# Altium footprint library WR-TBL_Spring Clamp_5.00mm.PcbLib: 78 footprints (part 5 of 5)
Each footprint in its own frame and in the unit in brackets; x right, y up, seen from the top. Pads: shape width x height; smd on the part's side, far side on the other; paste and mask are expansions set on the pad; w line width, h text height; cw(c..) or ccw(c..) is an arc to the next point about the centre after c.
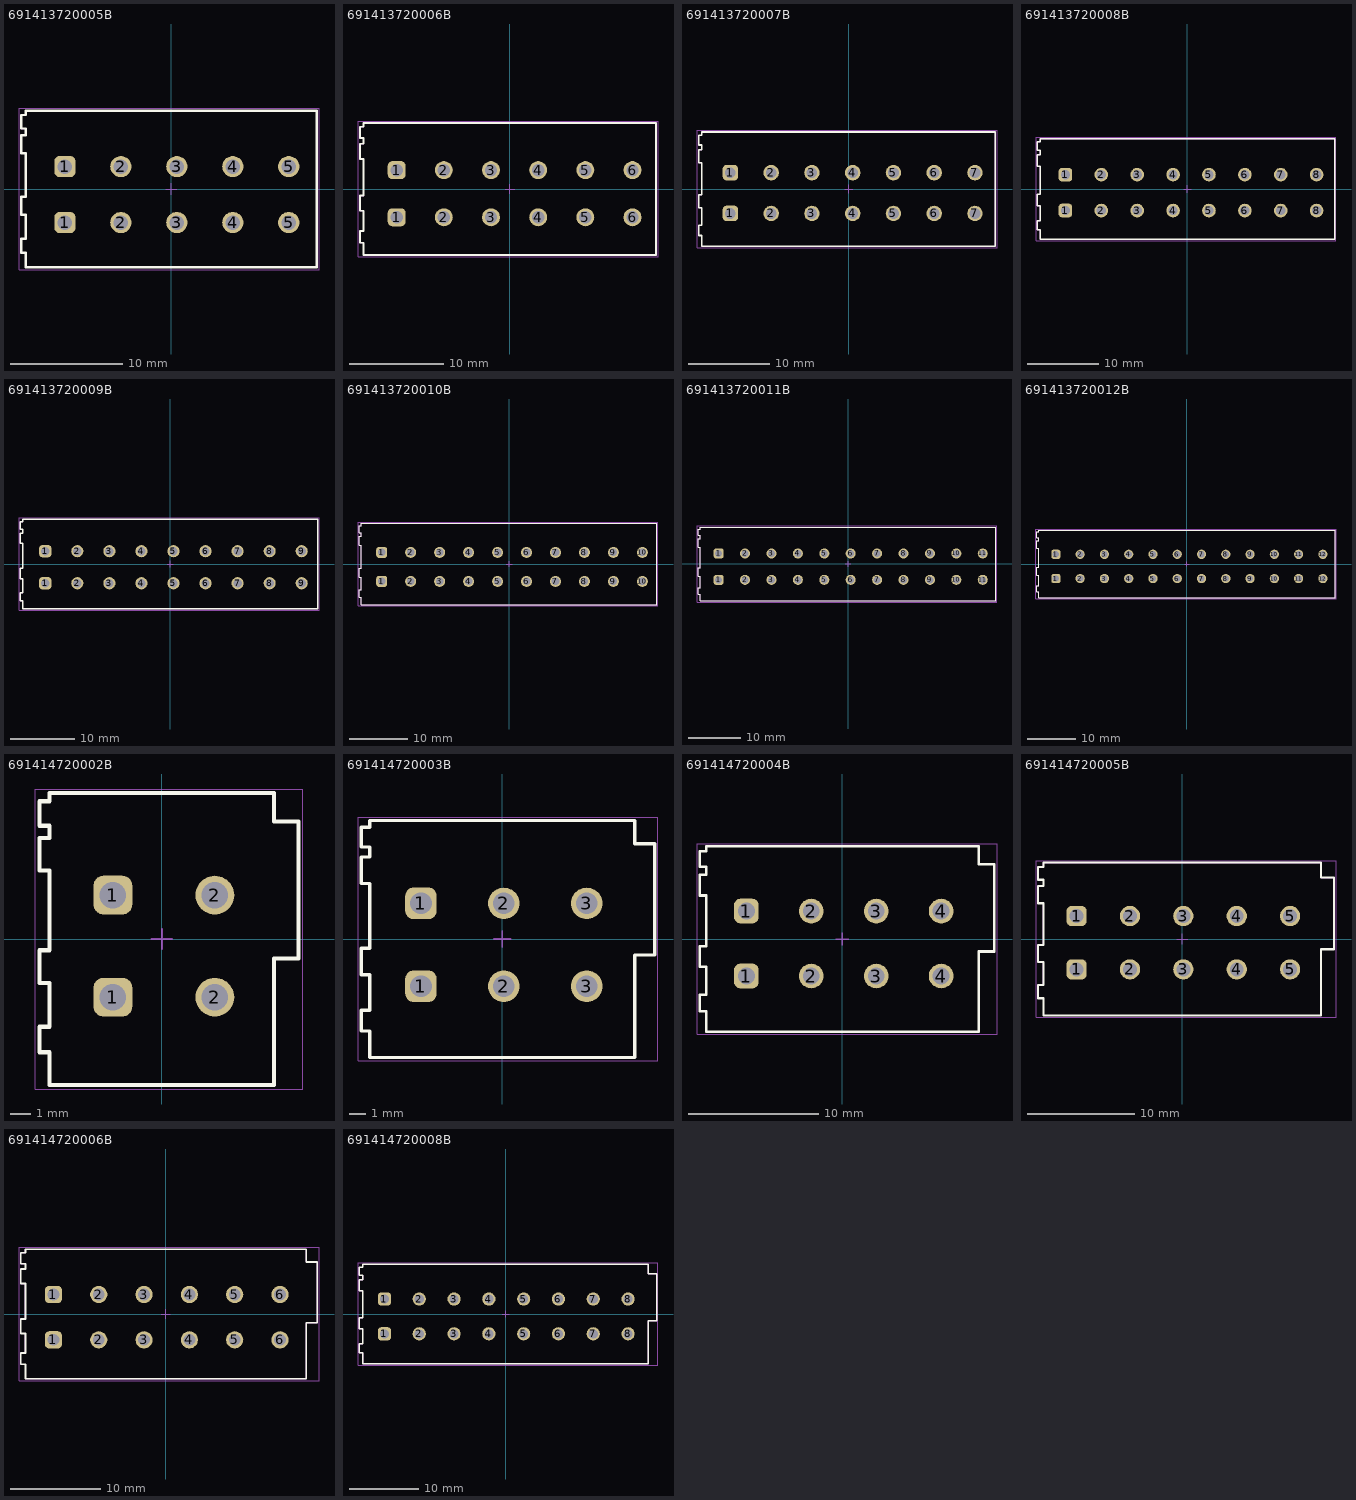
[diagram p4: the footprints below, top view; thin cyan lines are the x and y axes]

## 691413720005B [mm] "5.00 mm Screwless 45¡ã Entry - 3.00 mm2 Wires, 5p"
height 13
pads (10):
  rrect50% 1.9x1.9 hole 1.3: 1(-9.5,-3) 1(-9.5,2)
  round 1.9 hole 1.3: 2(-4.5,-3) 2(-4.5,2) 3(0.5,-3) 3(0.5,2) 4(5.5,-3) 4(5.5,2) 5(10.5,-3) 5(10.5,2)
Top Overlay:
  lines w0.2: -13.4,-5.7 -13,-5.7 -13,-7 13,-7 13,7 -13,7 -13,6.6 -13.4,6.6 -13.4,5.4 -13,5.4 -13,4.8 -13.4,4.8 -13.4,3.2 -13,3.2 -13,-0.7 -13.4,-0.7 -13.4,-2.3 -13,-2.3 -13,-4.45 -13.4,-4.45 -13.4,-5.7
Top Assembly:
  lines w0.1: -13.4,-5.7 -13.4,-4.45 -13,-4.45 -13,-2.3 -13.4,-2.3 -13.4,-0.7 -13,-0.7 -13,3.2 -13.4,3.2 -13.4,4.8 -13,4.8 -13,5.4 -13.4,5.4 -13.4,6.6 -13,6.6 -13,7 13,7 13,-7 -13,-7 -13,-5.7 -13.4,-5.7
Top Designator:
  text ".Designator" at -3.647,-0.357 h1
Top 3D Body:
  lines w0.1: -13.4,-5.7 -13,-5.7 -13,-7 13,-7 13,7 -13,7 -13,6.6 -13.4,6.6 -13.4,5.4 -13,5.4 -13,4.8 -13.4,4.8 -13.4,3.2 -13,3.2 -13,-0.7 -13.4,-0.7 -13.4,-2.3 -13,-2.3 -13,-4.45 -13.4,-4.45 -13.4,-5.7
Top Courtyard:
  lines w0.05: -13.6,-7.2 13.2,-7.2 13.2,7.2 -13.6,7.2 -13.6,-7.2
Top Component Center:
  lines w0.1: -0.5,0 0.5,0 ; 0,-0.5 0,0.5
3D body "691413720005B.stp": height 13.08, standoff -3.42, extent -13.4,-7 13,7

## 691413720006B [mm] "5.00 mm Screwless 45¡ã Entry - 3.00 mm2 Wires, 6p"
height 13
pads (12):
  rrect50% 1.9x1.9 hole 1.3: 1(-12,-3) 1(-12,2)
  round 1.9 hole 1.3: 2(-7,-3) 2(-7,2) 3(-2,-3) 3(-2,2) 4(3,-3) 4(3,2) 5(8,-3) 5(8,2) 6(13,-3) 6(13,2)
Top Overlay:
  lines w0.2: -15.9,-5.7 -15.5,-5.7 -15.5,-7 15.5,-7 15.5,7 -15.5,7 -15.5,6.6 -15.9,6.6 -15.9,5.4 -15.5,5.4 -15.5,4.8 -15.9,4.8 -15.9,3.2 -15.5,3.2 -15.5,-0.7 -15.9,-0.7 -15.9,-2.3 -15.5,-2.3 -15.5,-4.45 -15.9,-4.45 -15.9,-5.7
Top Assembly:
  lines w0.1: -15.9,-5.7 -15.9,-4.45 -15.5,-4.45 -15.5,-2.3 -15.9,-2.3 -15.9,-0.7 -15.5,-0.7 -15.5,3.2 -15.9,3.2 -15.9,4.8 -15.5,4.8 -15.5,5.4 -15.9,5.4 -15.9,6.6 -15.5,6.6 -15.5,7 15.5,7 15.5,-7 -15.5,-7 -15.5,-5.7 -15.9,-5.7
Top Designator:
  text ".Designator" at -3.647,-0.357 h1
Top 3D Body:
  lines w0.1: -15.9,-5.7 -15.5,-5.7 -15.5,-7 15.5,-7 15.5,7 -15.5,7 -15.5,6.6 -15.9,6.6 -15.9,5.4 -15.5,5.4 -15.5,4.8 -15.9,4.8 -15.9,3.2 -15.5,3.2 -15.5,-0.7 -15.9,-0.7 -15.9,-2.3 -15.5,-2.3 -15.5,-4.45 -15.9,-4.45 -15.9,-5.7
Top Courtyard:
  lines w0.05: -16.1,-7.2 15.7,-7.2 15.7,7.2 -16.1,7.2 -16.1,-7.2
Top Component Center:
  lines w0.1: -0.5,0 0.5,0 ; 0,-0.5 0,0.5
3D body "691413720006B.stp": height 13.08, standoff -3.42, extent -15.9,-7 15.5,7

## 691413720007B [mm] "5.00 mm Screwless 45¡ã Entry - 3.00 mm2 Wires, 7p"
height 13
pads (14):
  rrect50% 1.9x1.9 hole 1.3: 1(-14.5,-3) 1(-14.5,2)
  round 1.9 hole 1.3: 2(-9.5,-3) 2(-9.5,2) 3(-4.5,-3) 3(-4.5,2) 4(0.5,-3) 4(0.5,2) 5(5.5,-3) 5(5.5,2) 6(10.5,-3) 6(10.5,2) 7(15.5,-3) 7(15.5,2)
Top Overlay:
  lines w0.2: -18.4,-5.7 -18,-5.7 -18,-7 18,-7 18,7 -18,7 -18,6.6 -18.4,6.6 -18.4,5.4 -18,5.4 -18,4.8 -18.4,4.8 -18.4,3.2 -18,3.2 -18,-0.7 -18.4,-0.7 -18.4,-2.3 -18,-2.3 -18,-4.45 -18.4,-4.45 -18.4,-5.7
Top Assembly:
  lines w0.1: -18.4,-5.7 -18.4,-4.45 -18,-4.45 -18,-2.3 -18.4,-2.3 -18.4,-0.7 -18,-0.7 -18,3.2 -18.4,3.2 -18.4,4.8 -18,4.8 -18,5.4 -18.4,5.4 -18.4,6.6 -18,6.6 -18,7 18,7 18,-7 -18,-7 -18,-5.7 -18.4,-5.7
Top Designator:
  text ".Designator" at -3.647,-0.357 h1
Top 3D Body:
  lines w0.1: -18.4,-5.7 -18,-5.7 -18,-7 18,-7 18,7 -18,7 -18,6.6 -18.4,6.6 -18.4,5.4 -18,5.4 -18,4.8 -18.4,4.8 -18.4,3.2 -18,3.2 -18,-0.7 -18.4,-0.7 -18.4,-2.3 -18,-2.3 -18,-4.45 -18.4,-4.45 -18.4,-5.7
Top Courtyard:
  lines w0.05: -18.6,-7.2 18.2,-7.2 18.2,7.2 -18.6,7.2 -18.6,-7.2
Top Component Center:
  lines w0.1: -0.5,0 0.5,0 ; 0,-0.5 0,0.5
3D body "691413720007B.stp": height 13.08, standoff -3.42, extent -18.4,-7 18,7

## 691413720008B [mm] "5.00 mm Screwless 45¡ã Entry - 3.00 mm2 Wires, 8p"
height 13
pads (16):
  rrect50% 1.9x1.9 hole 1.3: 1(-17,-3) 1(-17,2)
  round 1.9 hole 1.3: 2(-12,-3) 2(-12,2) 3(-7,-3) 3(-7,2) 4(-2,-3) 4(-2,2) 5(3,-3) 5(3,2) 6(8,-3) 6(8,2) 7(13,-3) 7(13,2) 8(18,-3) 8(18,2)
Top Overlay:
  lines w0.2: -20.9,-5.7 -20.9,-4.45 -20.5,-4.45 -20.5,-2.3 -20.9,-2.3 -20.9,-0.7 -20.5,-0.7 -20.5,3.2 -20.9,3.2 -20.9,4.8 -20.5,4.8 -20.5,5.4 -20.9,5.4 -20.9,6.6 -20.5,6.6 -20.5,7 20.5,7 20.5,-7 -20.5,-7 -20.5,-5.7 -20.9,-5.7
Top Assembly:
  lines w0.1: -20.9,-5.7 -20.5,-5.7 -20.5,-7 20.5,-7 20.5,7 -20.5,7 -20.5,6.6 -20.9,6.6 -20.9,5.4 -20.5,5.4 -20.5,4.8 -20.9,4.8 -20.9,3.2 -20.5,3.2 -20.5,-0.7 -20.9,-0.7 -20.9,-2.3 -20.5,-2.3 -20.5,-4.45 -20.9,-4.45 -20.9,-5.7
Top Designator:
  text ".Designator" at -3.647,-0.357 h1
Top 3D Body:
  lines w0.1: -20.9,-5.7 -20.9,-4.45 -20.5,-4.45 -20.5,-2.3 -20.9,-2.3 -20.9,-0.7 -20.5,-0.7 -20.5,3.2 -20.9,3.2 -20.9,4.8 -20.5,4.8 -20.5,5.4 -20.9,5.4 -20.9,6.6 -20.5,6.6 -20.5,7 20.5,7 20.5,-7 -20.5,-7 -20.5,-5.7 -20.9,-5.7
Top Courtyard:
  lines w0.05: -21.1,-7.2 -21.1,7.2 20.7,7.2 20.7,-7.2 -21.1,-7.2
Top Component Center:
  lines w0.1: -0.5,0 0.5,0 ; 0,-0.5 0,0.5
3D body "691413720008B.stp": height 13.08, standoff -3.42, extent -20.9,-7 20.5,7

## 691413720009B [mm] "5.00 mm Screwless 45¡ã Entry - 3.00 mm2 Wires, 9p"
height 13
pads (18):
  rrect50% 1.9x1.9 hole 1.3: 1(-19.5,-3) 1(-19.5,2)
  round 1.9 hole 1.3: 2(-14.5,-3) 2(-14.5,2) 3(-9.5,-3) 3(-9.5,2) 4(-4.5,-3) 4(-4.5,2) 5(0.5,-3) 5(0.5,2) 6(5.5,-3) 6(5.5,2) 7(10.5,-3) 7(10.5,2) 8(15.5,-3) 8(15.5,2) 9(20.5,-3) 9(20.5,2)
Top Overlay:
  lines w0.2: -23.4,-5.7 -23,-5.7 -23,-7 23,-7 23,7 -23,7 -23,6.6 -23.4,6.6 -23.4,5.4 -23,5.4 -23,4.8 -23.4,4.8 -23.4,3.2 -23,3.2 -23,-0.7 -23.4,-0.7 -23.4,-2.3 -23,-2.3 -23,-4.45 -23.4,-4.45 -23.4,-5.7
Top Assembly:
  lines w0.1: -23.4,-5.7 -23.4,-4.45 -23,-4.45 -23,-2.3 -23.4,-2.3 -23.4,-0.7 -23,-0.7 -23,3.2 -23.4,3.2 -23.4,4.8 -23,4.8 -23,5.4 -23.4,5.4 -23.4,6.6 -23,6.6 -23,7 23,7 23,-7 -23,-7 -23,-5.7 -23.4,-5.7
Top Designator:
  text ".Designator" at -3.647,-0.357 h1
Top 3D Body:
  lines w0.1: -23.4,-5.7 -23,-5.7 -23,-7 23,-7 23,7 -23,7 -23,6.6 -23.4,6.6 -23.4,5.4 -23,5.4 -23,4.8 -23.4,4.8 -23.4,3.2 -23,3.2 -23,-0.7 -23.4,-0.7 -23.4,-2.3 -23,-2.3 -23,-4.45 -23.4,-4.45 -23.4,-5.7
Top Courtyard:
  lines w0.05: -23.6,-7.2 23.2,-7.2 23.2,7.2 -23.6,7.2 -23.6,-7.2
Top Component Center:
  lines w0.1: -0.5,0 0.5,0 ; 0,-0.5 0,0.5
3D body "691413720009B.stp": height 13.08, standoff -3.42, extent -23.4,-7 23,7

## 691413720010B [mm] "5.00 mm Screwless 45¡ã Entry - 3.00 mm2 Wires, 10p"
height 13
pads (20):
  rrect50% 1.9x1.9 hole 1.3: 1(-22,-3) 1(-22,2)
  round 1.9 hole 1.3: 2(-17,-3) 2(-17,2) 3(-12,-3) 3(-12,2) 4(-7,-3) 4(-7,2) 5(-2,-3) 5(-2,2) 6(3,-3) 6(3,2) 7(8,-3) 7(8,2) 8(13,-3) 8(13,2) 9(18,-3) 9(18,2) 10(23,-3) 10(23,2)
Top Overlay:
  lines w0.2: -25.9,-5.7 -25.9,-4.45 -25.5,-4.45 -25.5,-2.3 -25.9,-2.3 -25.9,-0.7 -25.5,-0.7 -25.5,3.2 -25.9,3.2 -25.9,4.8 -25.5,4.8 -25.5,5.4 -25.9,5.4 -25.9,6.6 -25.5,6.6 -25.5,7 25.5,7 25.5,-7 -25.5,-7 -25.5,-5.7 -25.9,-5.7
Top Assembly:
  lines w0.1: -25.9,-5.7 -25.5,-5.7 -25.5,-7 25.5,-7 25.5,7 -25.5,7 -25.5,6.6 -25.9,6.6 -25.9,5.4 -25.5,5.4 -25.5,4.8 -25.9,4.8 -25.9,3.2 -25.5,3.2 -25.5,-0.7 -25.9,-0.7 -25.9,-2.3 -25.5,-2.3 -25.5,-4.45 -25.9,-4.45 -25.9,-5.7
Top Designator:
  text ".Designator" at -3.647,-0.357 h1
Top 3D Body:
  lines w0.1: -25.9,-5.7 -25.9,-4.45 -25.5,-4.45 -25.5,-2.3 -25.9,-2.3 -25.9,-0.7 -25.5,-0.7 -25.5,3.2 -25.9,3.2 -25.9,4.8 -25.5,4.8 -25.5,5.4 -25.9,5.4 -25.9,6.6 -25.5,6.6 -25.5,7 25.5,7 25.5,-7 -25.5,-7 -25.5,-5.7 -25.9,-5.7
Top Courtyard:
  lines w0.05: -26.1,-7.2 -26.1,7.2 25.7,7.2 25.7,-7.2 -26.1,-7.2
Top Component Center:
  lines w0.1: -0.5,0 0.5,0 ; 0,-0.5 0,0.5
3D body "691413720010B.stp": height 13.08, standoff -3.42, extent -25.9,-7 25.5,7

## 691413720011B [mm] "5.00 mm Screwless 45¡ã Entry - 3.00 mm2 Wires, 11p"
height 13
pads (22):
  rrect50% 1.9x1.9 hole 1.3: 1(-24.5,-3) 1(-24.5,2)
  round 1.9 hole 1.3: 2(-19.5,-3) 2(-19.5,2) 3(-14.5,-3) 3(-14.5,2) 4(-9.5,-3) 4(-9.5,2) 5(-4.5,-3) 5(-4.5,2) 6(0.5,-3) 6(0.5,2) 7(5.5,-3) 7(5.5,2) 8(10.5,-3) 8(10.5,2) 9(15.5,-3) 9(15.5,2) 10(20.5,-3) 10(20.5,2) 11(25.5,-3) 11(25.5,2)
Top Overlay:
  lines w0.2: -28.4,-5.7 -28,-5.7 -28,-7 28,-7 28,7 -28,7 -28,6.6 -28.4,6.6 -28.4,5.4 -28,5.4 -28,4.8 -28.4,4.8 -28.4,3.2 -28,3.2 -28,-0.7 -28.4,-0.7 -28.4,-2.3 -28,-2.3 -28,-4.45 -28.4,-4.45 -28.4,-5.7
Top Assembly:
  lines w0.1: -28.4,-5.7 -28.4,-4.45 -28,-4.45 -28,-2.3 -28.4,-2.3 -28.4,-0.7 -28,-0.7 -28,3.2 -28.4,3.2 -28.4,4.8 -28,4.8 -28,5.4 -28.4,5.4 -28.4,6.6 -28,6.6 -28,7 28,7 28,-7 -28,-7 -28,-5.7 -28.4,-5.7
Top Designator:
  text ".Designator" at -3.647,-0.357 h1
Top 3D Body:
  lines w0.1: -28.4,-5.7 -28,-5.7 -28,-7 28,-7 28,7 -28,7 -28,6.6 -28.4,6.6 -28.4,5.4 -28,5.4 -28,4.8 -28.4,4.8 -28.4,3.2 -28,3.2 -28,-0.7 -28.4,-0.7 -28.4,-2.3 -28,-2.3 -28,-4.45 -28.4,-4.45 -28.4,-5.7
Top Courtyard:
  lines w0.05: -28.6,-7.2 28.2,-7.2 28.2,7.2 -28.6,7.2 -28.6,-7.2
Top Component Center:
  lines w0.1: -0.5,0 0.5,0 ; 0,-0.5 0,0.5
3D body "691413720011B.stp": height 13.08, standoff -3.42, extent -28.4,-7 28,7

## 691413720012B [mm] "5.00 mm Screwless 45¡ã Entry - 3.00 mm2 Wires, 12p"
height 13
pads (24):
  rrect50% 1.9x1.9 hole 1.3: 1(-27,-3) 1(-27,2)
  round 1.9 hole 1.3: 2(-22,-3) 2(-22,2) 3(-17,-3) 3(-17,2) 4(-12,-3) 4(-12,2) 5(-7,-3) 5(-7,2) 6(-2,-3) 6(-2,2) 7(3,-3) 7(3,2) 8(8,-3) 8(8,2) 9(13,-3) 9(13,2) 10(18,-3) 10(18,2) 11(23,-3) 11(23,2) 12(28,-3) 12(28,2)
Top Overlay:
  lines w0.2: -30.9,-5.7 -30.9,-4.45 -30.5,-4.45 -30.5,-2.3 -30.9,-2.3 -30.9,-0.7 -30.5,-0.7 -30.5,3.2 -30.9,3.2 -30.9,4.8 -30.5,4.8 -30.5,5.4 -30.9,5.4 -30.9,6.6 -30.5,6.6 -30.5,7 30.5,7 30.5,-7 -30.5,-7 -30.5,-5.7 -30.9,-5.7
Top Assembly:
  lines w0.1: -30.9,-5.7 -30.5,-5.7 -30.5,-7 30.5,-7 30.5,7 -30.5,7 -30.5,6.6 -30.9,6.6 -30.9,5.4 -30.5,5.4 -30.5,4.8 -30.9,4.8 -30.9,3.2 -30.5,3.2 -30.5,-0.7 -30.9,-0.7 -30.9,-2.3 -30.5,-2.3 -30.5,-4.45 -30.9,-4.45 -30.9,-5.7
Top Designator:
  text ".Designator" at -3.647,-0.357 h1
Top 3D Body:
  lines w0.1: -30.9,-5.7 -30.9,-4.45 -30.5,-4.45 -30.5,-2.3 -30.9,-2.3 -30.9,-0.7 -30.5,-0.7 -30.5,3.2 -30.9,3.2 -30.9,4.8 -30.5,4.8 -30.5,5.4 -30.9,5.4 -30.9,6.6 -30.5,6.6 -30.5,7 30.5,7 30.5,-7 -30.5,-7 -30.5,-5.7 -30.9,-5.7
Top Courtyard:
  lines w0.05: -31.1,-7.2 -31.1,7.2 30.7,7.2 30.7,-7.2 -31.1,-7.2
Top Component Center:
  lines w0.1: -0.5,0 0.5,0 ; 0,-0.5 0,0.5
3D body "691413720012B.stp": height 13.08, standoff -3.42, extent -30.9,-7 30.5,7

## 691414720002B [mm] "5.00 mm Screwless 45¡ã Entry - 3.00 mm2 Wires, 2p"
height 12.9
pads (4):
  rrect50% 1.9x1.9 hole 1.3: 1(-2.4,-2.85) 1(-2.4,2.15)
  round 1.9 hole 1.3: 2(2.6,-2.85) 2(2.6,2.15)
Top Overlay:
  lines w0.2: -6,-5.55 -6,-4.3 -5.5,-4.3 -5.5,-2.15 -6,-2.15 -6,-0.55 -5.5,-0.55 -5.5,3.35 -6,3.35 -6,4.95 -5.5,4.95 -5.5,5.55 -6,5.55 -6,6.75 -5.5,6.75 -5.5,7.15 5.5,7.15 5.5,5.75 6.7,5.75 6.7,-0.96 5.5,-0.96 5.5,-7.15 -5.5,-7.15 -5.5,-5.55 -6,-5.55
Top Assembly:
  lines w0.1: -6,-5.55 -5.5,-5.55 -5.5,-7.15 5.5,-7.15 5.5,-0.96 6.7,-0.96 6.7,5.75 5.5,5.75 5.5,7.15 -5.5,7.15 -5.5,6.75 -6,6.75 -6,5.55 -5.5,5.55 -5.5,4.95 -6,4.95 -6,3.35 -5.5,3.35 -5.5,-0.55 -6,-0.55 -6,-2.15 -5.5,-2.15 -5.5,-4.3 -6,-4.3 -6,-5.55
Top Designator:
  text ".Designator" at -3.647,-0.357 h1
Top 3D Body:
  lines w0.1: -6,-5.55 -6,-4.3 -5.5,-4.3 -5.5,-2.15 -6,-2.15 -6,-0.55 -5.5,-0.55 -5.5,3.35 -6,3.35 -6,4.95 -5.5,4.95 -5.5,5.55 -6,5.55 -6,6.75 -5.5,6.75 -5.5,7.15 5.5,7.15 5.5,5.75 6.7,5.75 6.7,-0.96 5.5,-0.96 5.5,-7.15 -5.5,-7.15 -5.5,-5.55 -6,-5.55
Top Courtyard:
  lines w0.05: -6.2,-7.35 6.9,-7.35 6.9,7.35 -6.2,7.35 -6.2,-7.35
Top Component Center:
  lines w0.1: -0.5,0 0.5,0 ; 0,-0.5 0,0.5
3D body "691414720002B.stp": height 19.05, standoff -3.93, extent -6,-7.15 6.7,7.15

## 691414720003B [mm] "5.00 mm Screwless 45¡ã Entry - 3.00 mm2 Wires, 3p"
height 12.9
pads (6):
  rrect50% 1.9x1.9 hole 1.3: 1(-4.9,-2.85) 1(-4.9,2.15)
  round 1.9 hole 1.3: 2(0.1,-2.85) 2(0.1,2.15) 3(5.1,-2.85) 3(5.1,2.15)
Top Overlay:
  lines w0.2: -8.5,-5.55 -8.5,-4.3 -8,-4.3 -8,-2.15 -8.5,-2.15 -8.5,-0.55 -8,-0.55 -8,3.35 -8.5,3.35 -8.5,4.95 -8,4.95 -8,5.55 -8.5,5.55 -8.5,6.75 -8,6.75 -8,7.15 8,7.15 8,5.75 9.2,5.75 9.2,-0.96 8,-0.96 8,-7.15 -8,-7.15 -8,-5.55 -8.5,-5.55
Top Assembly:
  lines w0.1: -8.5,-5.55 -8,-5.55 -8,-7.15 8,-7.15 8,-0.96 9.2,-0.96 9.2,5.75 8,5.75 8,7.15 -8,7.15 -8,6.75 -8.5,6.75 -8.5,5.55 -8,5.55 -8,4.95 -8.5,4.95 -8.5,3.35 -8,3.35 -8,-0.55 -8.5,-0.55 -8.5,-2.15 -8,-2.15 -8,-4.3 -8.5,-4.3 -8.5,-5.55
Top Designator:
  text ".Designator" at -3.647,-0.357 h1
Top 3D Body:
  lines w0.1: -8.5,-5.55 -8.5,-4.3 -8,-4.3 -8,-2.15 -8.5,-2.15 -8.5,-0.55 -8,-0.55 -8,3.35 -8.5,3.35 -8.5,4.95 -8,4.95 -8,5.55 -8.5,5.55 -8.5,6.75 -8,6.75 -8,7.15 8,7.15 8,5.75 9.2,5.75 9.2,-0.96 8,-0.96 8,-7.15 -8,-7.15 -8,-5.55 -8.5,-5.55
Top Courtyard:
  lines w0.05: -8.7,-7.35 9.4,-7.35 9.4,7.35 -8.7,7.35 -8.7,-7.35
Top Component Center:
  lines w0.1: -0.5,0 0.5,0 ; 0,-0.5 0,0.5
3D body "691414720003B.stp": height 19.05, standoff -3.93, extent -8.5,-7.15 9.2,7.15

## 691414720004B [mm] "5.00 mm Screwless 45¡ã Entry - 3.00 mm2 Wires, 4p"
height 12.9
pads (8):
  rrect50% 1.9x1.9 hole 1.3: 1(-7.4,-2.85) 1(-7.4,2.15)
  round 1.9 hole 1.3: 2(-2.4,-2.85) 2(-2.4,2.15) 3(2.6,-2.85) 3(2.6,2.15) 4(7.6,-2.85) 4(7.6,2.15)
Top Overlay:
  lines w0.2: -11,-5.55 -11,-4.3 -10.5,-4.3 -10.5,-2.15 -11,-2.15 -11,-0.55 -10.5,-0.55 -10.5,3.35 -11,3.35 -11,4.95 -10.5,4.95 -10.5,5.55 -11,5.55 -11,6.75 -10.5,6.75 -10.5,7.15 10.5,7.15 10.5,5.75 11.7,5.75 11.7,-0.96 10.5,-0.96 10.5,-7.15 -10.5,-7.15 -10.5,-5.55 -11,-5.55
Top Assembly:
  lines w0.1: -11,-5.55 -10.5,-5.55 -10.5,-7.15 10.5,-7.15 10.5,-0.96 11.7,-0.96 11.7,5.75 10.5,5.75 10.5,7.15 -10.5,7.15 -10.5,6.75 -11,6.75 -11,5.55 -10.5,5.55 -10.5,4.95 -11,4.95 -11,3.35 -10.5,3.35 -10.5,-0.55 -11,-0.55 -11,-2.15 -10.5,-2.15 -10.5,-4.3 -11,-4.3 -11,-5.55
Top Designator:
  text ".Designator" at -3.647,-0.357 h1
Top 3D Body:
  lines w0.1: -11,-5.55 -11,-4.3 -10.5,-4.3 -10.5,-2.15 -11,-2.15 -11,-0.55 -10.5,-0.55 -10.5,3.35 -11,3.35 -11,4.95 -10.5,4.95 -10.5,5.55 -11,5.55 -11,6.75 -10.5,6.75 -10.5,7.15 10.5,7.15 10.5,5.75 11.7,5.75 11.7,-0.96 10.5,-0.96 10.5,-7.15 -10.5,-7.15 -10.5,-5.55 -11,-5.55
Top Courtyard:
  lines w0.05: -11.2,-7.35 11.9,-7.35 11.9,7.35 -11.2,7.35 -11.2,-7.35
Top Component Center:
  lines w0.1: -0.5,0 0.5,0 ; 0,-0.5 0,0.5
3D body "691414720004B.stp": height 19.05, standoff -3.93, extent -11,-7.15 11.7,7.15

## 691414720005B [mm] "5.00 mm Screwless 45¡ã Entry - 3.00 mm2 Wires, 5p"
height 12.9
pads (10):
  rrect50% 1.9x1.9 hole 1.3: 1(-9.9,-2.85) 1(-9.9,2.15)
  round 1.9 hole 1.3: 2(-4.9,-2.85) 2(-4.9,2.15) 3(0.1,-2.85) 3(0.1,2.15) 4(5.1,-2.85) 4(5.1,2.15) 5(10.1,-2.85) 5(10.1,2.15)
Top Overlay:
  lines w0.2: -13.5,-5.55 -13.5,-4.3 -13,-4.3 -13,-2.15 -13.5,-2.15 -13.5,-0.55 -13,-0.55 -13,3.35 -13.5,3.35 -13.5,4.95 -13,4.95 -13,5.55 -13.5,5.55 -13.5,6.75 -13,6.75 -13,7.15 13,7.15 13,5.75 14.2,5.75 14.2,-0.96 13,-0.96 13,-7.15 -13,-7.15 -13,-5.55 -13.5,-5.55
Top Assembly:
  lines w0.1: -13.5,-5.55 -13,-5.55 -13,-7.15 13,-7.15 13,-0.96 14.2,-0.96 14.2,5.75 13,5.75 13,7.15 -13,7.15 -13,6.75 -13.5,6.75 -13.5,5.55 -13,5.55 -13,4.95 -13.5,4.95 -13.5,3.35 -13,3.35 -13,-0.55 -13.5,-0.55 -13.5,-2.15 -13,-2.15 -13,-4.3 -13.5,-4.3 -13.5,-5.55
Top Designator:
  text ".Designator" at -3.647,-0.357 h1
Top 3D Body:
  lines w0.1: -13.5,-5.55 -13.5,-4.3 -13,-4.3 -13,-2.15 -13.5,-2.15 -13.5,-0.55 -13,-0.55 -13,3.35 -13.5,3.35 -13.5,4.95 -13,4.95 -13,5.55 -13.5,5.55 -13.5,6.75 -13,6.75 -13,7.15 13,7.15 13,5.75 14.2,5.75 14.2,-0.96 13,-0.96 13,-7.15 -13,-7.15 -13,-5.55 -13.5,-5.55
Top Courtyard:
  lines w0.05: -13.7,-7.35 14.4,-7.35 14.4,7.35 -13.7,7.35 -13.7,-7.35
Top Component Center:
  lines w0.1: -0.5,0 0.5,0 ; 0,-0.5 0,0.5
3D body "691414720005B.stp": height 19.05, standoff -3.93, extent -13.5,-7.15 14.2,7.15

## 691414720006B [mm] "5.00 mm Screwless 45¡ã Entry - 3.00 mm2 Wires, 6p"
height 12.9
pads (12):
  rrect50% 1.9x1.9 hole 1.3: 1(-12.4,-2.85) 1(-12.4,2.15)
  round 1.9 hole 1.3: 2(-7.4,-2.85) 2(-7.4,2.15) 3(-2.4,-2.85) 3(-2.4,2.15) 4(2.6,-2.85) 4(2.6,2.15) 5(7.6,-2.85) 5(7.6,2.15) 6(12.6,-2.85) 6(12.6,2.15)
Top Overlay:
  lines w0.2: -16,-5.55 -16,-4.3 -15.5,-4.3 -15.5,-2.15 -16,-2.15 -16,-0.55 -15.5,-0.55 -15.5,3.35 -16,3.35 -16,4.95 -15.5,4.95 -15.5,5.55 -16,5.55 -16,6.75 -15.5,6.75 -15.5,7.15 15.5,7.15 15.5,5.75 16.7,5.75 16.7,-0.96 15.5,-0.96 15.5,-7.15 -15.5,-7.15 -15.5,-5.55 -16,-5.55
Top Assembly:
  lines w0.1: -16,-5.55 -15.5,-5.55 -15.5,-7.15 15.5,-7.15 15.5,-0.96 16.7,-0.96 16.7,5.75 15.5,5.75 15.5,7.15 -15.5,7.15 -15.5,6.75 -16,6.75 -16,5.55 -15.5,5.55 -15.5,4.95 -16,4.95 -16,3.35 -15.5,3.35 -15.5,-0.55 -16,-0.55 -16,-2.15 -15.5,-2.15 -15.5,-4.3 -16,-4.3 -16,-5.55
Top Designator:
  text ".Designator" at -3.647,-0.357 h1
Top 3D Body:
  lines w0.1: -16,-5.55 -16,-4.3 -15.5,-4.3 -15.5,-2.15 -16,-2.15 -16,-0.55 -15.5,-0.55 -15.5,3.35 -16,3.35 -16,4.95 -15.5,4.95 -15.5,5.55 -16,5.55 -16,6.75 -15.5,6.75 -15.5,7.15 15.5,7.15 15.5,5.75 16.7,5.75 16.7,-0.96 15.5,-0.96 15.5,-7.15 -15.5,-7.15 -15.5,-5.55 -16,-5.55
Top Courtyard:
  lines w0.05: -16.2,-7.35 16.9,-7.35 16.9,7.35 -16.2,7.35 -16.2,-7.35
Top Component Center:
  lines w0.1: -0.5,0 0.5,0 ; 0,-0.5 0,0.5
3D body "691414720006B.stp": height 19.05, standoff -3.93, extent -16,-7.15 16.7,7.15

## 691414720008B [mm] "5.00 mm Screwless 45¡ã Entry - 3.00 mm2 Wires, 8p"
height 12.9
pads (16):
  rrect50% 1.9x1.9 hole 1.3: 1(-17.4,-2.85) 1(-17.4,2.15)
  round 1.9 hole 1.3: 2(-12.4,-2.85) 2(-12.4,2.15) 3(-7.4,-2.85) 3(-7.4,2.15) 4(-2.4,-2.85) 4(-2.4,2.15) 5(2.6,-2.85) 5(2.6,2.15) 6(7.6,-2.85) 6(7.6,2.15) 7(12.6,-2.85) 7(12.6,2.15) 8(17.6,-2.85) 8(17.6,2.15)
Top Overlay:
  lines w0.2: -21,-5.55 -20.5,-5.55 -20.5,-7.15 20.5,-7.15 20.5,-0.96 21.7,-0.96 21.7,5.75 20.5,5.75 20.5,7.15 -20.5,7.15 -20.5,6.75 -21,6.75 -21,5.55 -20.5,5.55 -20.5,4.95 -21,4.95 -21,3.35 -20.5,3.35 -20.5,-0.55 -21,-0.55 -21,-2.15 -20.5,-2.15 -20.5,-4.3 -21,-4.3 -21,-5.55
Top Assembly:
  lines w0.1: -21,-5.55 -21,-4.3 -20.5,-4.3 -20.5,-2.15 -21,-2.15 -21,-0.55 -20.5,-0.55 -20.5,3.35 -21,3.35 -21,4.95 -20.5,4.95 -20.5,5.55 -21,5.55 -21,6.75 -20.5,6.75 -20.5,7.15 20.5,7.15 20.5,5.75 21.7,5.75 21.7,-0.96 20.5,-0.96 20.5,-7.15 -20.5,-7.15 -20.5,-5.55 -21,-5.55
Top Designator:
  text ".Designator" at -3.647,-0.357 h1
Top 3D Body:
  lines w0.1: -21,-5.55 -20.5,-5.55 -20.5,-7.15 20.5,-7.15 20.5,-0.96 21.7,-0.96 21.7,5.75 20.5,5.75 20.5,7.15 -20.5,7.15 -20.5,6.75 -21,6.75 -21,5.55 -20.5,5.55 -20.5,4.95 -21,4.95 -21,3.35 -20.5,3.35 -20.5,-0.55 -21,-0.55 -21,-2.15 -20.5,-2.15 -20.5,-4.3 -21,-4.3 -21,-5.55
Top Courtyard:
  lines w0.05: -21.2,-7.35 -21.2,7.35 21.9,7.35 21.9,-7.35 -21.2,-7.35
Top Component Center:
  lines w0.1: -0.5,0 0.5,0 ; 0,-0.5 0,0.5
3D body "691414720008B.stp": height 19.05, standoff -3.93, extent -21,-7.15 21.7,7.15